# Altium footprint library BLDC_Motor_Driver.PcbLib: 122 footprints (part 6 of 8)
Each footprint in its own frame and in the unit in brackets; x right, y up, seen from the top. Pads: shape width x height; smd on the part's side, far side on the other; paste and mask are expansions set on the pad; w line width, h text height; cw(c..) or ccw(c..) is an arc to the next point about the centre after c.
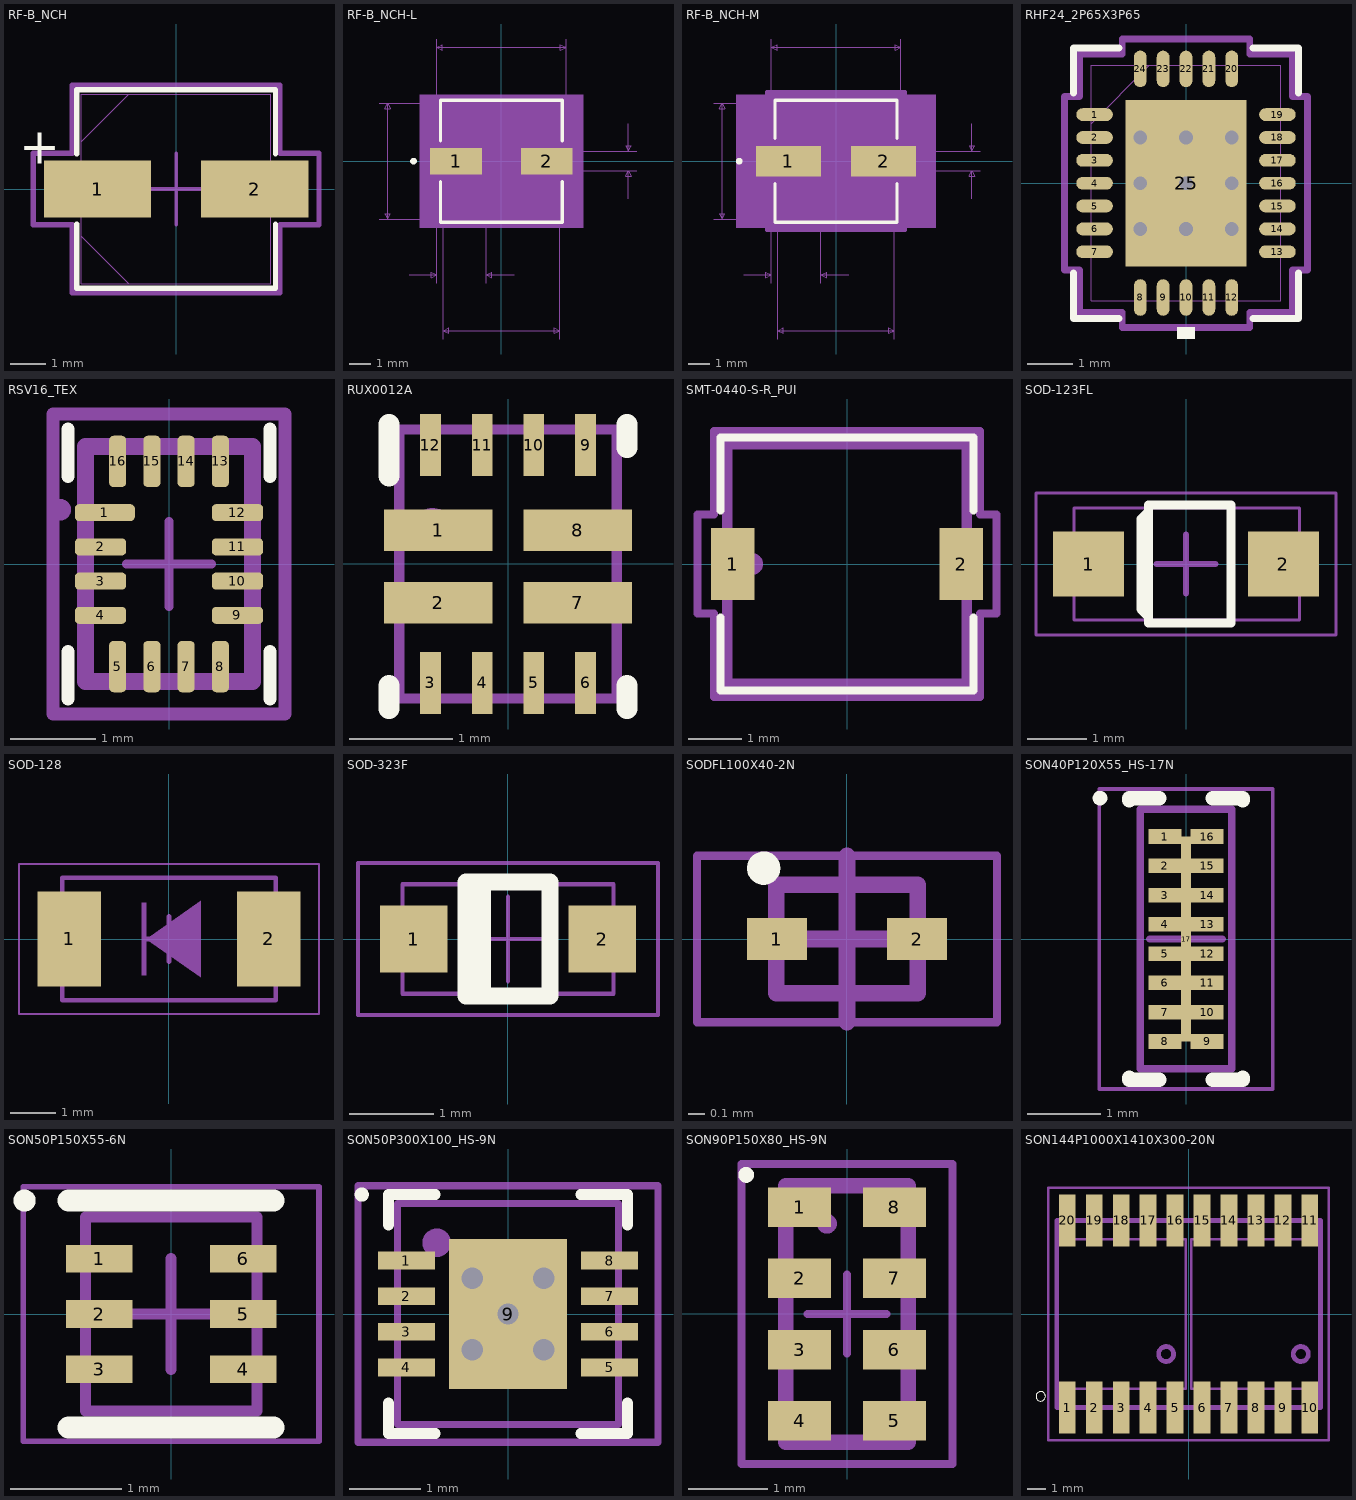
[diagram p5: the footprints below, top view; thin cyan lines are the x and y axes]

## RF-B_NCH [mm]
pads (2):
  rect 3x1.6 smd: 1(-2.2,0) 2(2.2,0)
Top Overlay:
  lines w0.152: -2.781,-0.98 -2.781,-2.781 2.781,-2.781 2.781,-0.98 ; -2.781,0.98 -2.781,2.781 2.781,2.781 2.781,0.98
  text "+" at -4.4,0.7 h1
3D Body TOP:
  lines w0.025: -2.654,-1.327 -1.327,-2.654 ; -2.654,1.327 -1.327,2.654 ; -2.654,-2.654 -2.654,2.654 2.654,2.654 2.654,-2.654 -2.654,-2.654
Courtyard TOP:
  lines w0.1: -1,0 1,0 ; 0,-1 0,1
  lines w0.152: -4,-1 -2.908,-1 -2.908,-2.908 2.908,-2.908 2.908,-1 4,-1 4,1 2.908,1 2.908,2.908 -2.908,2.908 -2.908,1 -4,1 -4,-1
3D body "RF-B_NCH.step": height 5.74, standoff 0, extent -2.946,-2.654 2.946,2.654

## RF-B_NCH-L [mil]
pads (2):
  rect 93x47 smd paste+0 mask+0: 1(-81.5,0) 2(81.5,0)
Top Overlay:
  circle w6: c-158,0 r3
  lines w6: -109.5,-36.6 -109.5,-109.5 109.5,-109.5 109.5,-36.6 ; -109.5,36.6 -109.5,109.5 109.5,109.5 109.5,36.6
Mechanical 5:
  region: 147,-119.5 -147,-119.5 -147,119.5 147,119.5
Mechanical 7:
  lines w1: -219.5,-104.5 -104.5,-104.5 -104.5,-319.5 ; -219.5,104.5 -104.5,104.5 ; -166,-204.5 -116,-204.5 ; -116,-219.5 -116,-33.5 ; -116,33.5 -116,219.5 ; -27,-219.5 -27,-13.5 ; 23,-204.5 -27,-204.5 ; 104.5,-319.5 104.5,-104.5 ; 116,33.5 116,219.5 ; 138,-17.5 243,-17.5 ; 138,17.5 243,17.5 ; 228,-67.5 228,-17.5 ; 228,67.5 228,17.5 ; -204.5,-104.5 -204.5,104.5 ; -204.5,-104.5 -209.5,-94.5 -199.5,-94.5 -204.5,-104.5 ; -204.5,104.5 -209.5,94.5 -199.5,94.5 -204.5,104.5 ; -116,-204.5 -126,-199.5 -126,-209.5 -116,-204.5 ; -116,204.5 116,204.5 ; -116,204.5 -106,209.5 -106,199.5 -116,204.5 ; -104.5,-304.5 104.5,-304.5 ; -104.5,-304.5 -94.5,-299.5 -94.5,-309.5 -104.5,-304.5 ; -27,-204.5 -17,-199.5 -17,-209.5 -27,-204.5 ; 104.5,-304.5 94.5,-299.5 94.5,-309.5 104.5,-304.5 ; 116,204.5 106,209.5 106,199.5 116,204.5 ; 228,-17.5 223,-27.5 233,-27.5 228,-17.5 ; 228,17.5 223,27.5 233,27.5 228,17.5
  text "Default Padstyle: RX93Y47D0T" at -350,-451.5 h50
  text "Alternate 1 Padstyle: OX60Y90D30P" at -412.5,-551.5 h50
  text "Alternate 2 Padstyle: OX90Y60D30P" at -412.5,-651.5 h50
  text "0.035in/0.889mm" at 248,-12.5 h25
  text "0.232in/5.893mm" at -93.75,224.5 h25
  text "0.209in/5.309mm" at -412,-12.5 h25
  text "0.089in/2.261mm" at -165.25,-249.5 h25
  text "0.209in/5.309mm" at -93.75,-349.5 h25
3D Body TOP:
  circle w0: c-84.5,0 r3
  lines w1: -104.5,-52.25 -52.25,-104.5 ; -104.5,52.25 -52.25,104.5 ; -104.5,-104.5 104.5,-104.5 104.5,104.5 -104.5,104.5 -104.5,-104.5
Courtyard TOP:
  region: -108.5,-27.5 -132,-27.5 -132,27.5 -108.5,27.5 -108.5,108.5 108.5,108.5 108.5,27.5 132,27.5 132,-27.5 108.5,-27.5 108.5,-108.5 -108.5,-108.5
  lines w6: -132,-27.5 -132,27.5 -108.5,27.5 -108.5,108.5 108.5,108.5 108.5,27.5 132,27.5 132,-27.5 108.5,-27.5 108.5,-108.5 -108.5,-108.5 -108.5,-27.5 -132,-27.5
3D body: height 10, standoff 0, extent 0,0 10,10

## RF-B_NCH-M [mil]
pads (2):
  rect 117x55 smd paste+0 mask+0: 1(-85.5,0) 2(85.5,0)
Top Overlay:
  circle w6: c-174,0 r3
  lines w6: -109.5,-40.6 -109.5,-109.5 109.5,-109.5 109.5,-40.6 ; -109.5,40.6 -109.5,109.5 109.5,109.5 109.5,40.6
Mechanical 5:
  region: 179,-119.5 -179,-119.5 -179,119.5 179,119.5
Mechanical 7:
  lines w1: -219.5,-104.5 -104.5,-104.5 -104.5,-319.5 ; -219.5,104.5 -104.5,104.5 ; -166,-204.5 -116,-204.5 ; -116,-219.5 -116,-37.5 ; -116,37.5 -116,219.5 ; -27,-219.5 -27,-17.5 ; 23,-204.5 -27,-204.5 ; 104.5,-319.5 104.5,-104.5 ; 116,37.5 116,219.5 ; 154,-17.5 259,-17.5 ; 154,17.5 259,17.5 ; 244,-67.5 244,-17.5 ; 244,67.5 244,17.5 ; -204.5,-104.5 -204.5,104.5 ; -204.5,-104.5 -209.5,-94.5 -199.5,-94.5 -204.5,-104.5 ; -204.5,104.5 -209.5,94.5 -199.5,94.5 -204.5,104.5 ; -116,-204.5 -126,-199.5 -126,-209.5 -116,-204.5 ; -116,204.5 116,204.5 ; -116,204.5 -106,209.5 -106,199.5 -116,204.5 ; -104.5,-304.5 104.5,-304.5 ; -104.5,-304.5 -94.5,-299.5 -94.5,-309.5 -104.5,-304.5 ; -27,-204.5 -17,-199.5 -17,-209.5 -27,-204.5 ; 104.5,-304.5 94.5,-299.5 94.5,-309.5 104.5,-304.5 ; 116,204.5 106,209.5 106,199.5 116,204.5 ; 244,-17.5 239,-27.5 249,-27.5 244,-17.5 ; 244,17.5 239,27.5 249,27.5 244,17.5
  text "Default Padstyle: RX117Y55D0T" at -362.5,-447.5 h50
  text "Alternate 1 Padstyle: OX60Y90D30P" at -412.5,-547.5 h50
  text "Alternate 2 Padstyle: OX90Y60D30P" at -412.5,-647.5 h50
  text "0.035in/0.889mm" at 264,-12.5 h25
  text "0.232in/5.893mm" at -93.75,224.5 h25
  text "0.209in/5.309mm" at -412,-12.5 h25
  text "0.089in/2.261mm" at -165.25,-249.5 h25
  text "0.209in/5.309mm" at -93.75,-349.5 h25
3D Body TOP:
  circle w0: c-84.5,0 r3
  lines w1: -104.5,-52.25 -52.25,-104.5 ; -104.5,52.25 -52.25,104.5 ; -104.5,-104.5 104.5,-104.5 104.5,104.5 -104.5,104.5 -104.5,-104.5
Courtyard TOP:
  region: -124.5,-47.5 -164,-47.5 -164,47.5 -124.5,47.5 -124.5,124.5 124.5,124.5 124.5,47.5 164,47.5 164,-47.5 124.5,-47.5 124.5,-124.5 -124.5,-124.5
  lines w6: -164,-47.5 -164,47.5 -124.5,47.5 -124.5,124.5 124.5,124.5 124.5,47.5 164,47.5 164,-47.5 124.5,-47.5 124.5,-124.5 -124.5,-124.5 -124.5,-47.5 -164,-47.5
3D body: height 10, standoff 0, extent 0,0 10,10

## RHF24_2P65X3P65 [mm] "Plastic Quad Flatpack No-Lead"
height 1
pads (25):
  rrect100% 0.8x0.28 smd mask+0.05: 1(-2,1.5) 2(-2,1) 3(-2,0.5) 4(-2,0) 5(-2,-0.5) 6(-2,-1) 7(-2,-1.5) 13(2,-1.5) 14(2,-1) 15(2,-0.5) 16(2,0) 17(2,0.5) 18(2,1) 19(2,1.5)
  rrect100% 0.28x0.8 smd mask+0.05: 8(-1,-2.5) 9(-0.5,-2.5) 10(0,-2.5) 11(0.5,-2.5) 12(1,-2.5) 20(1,2.5) 21(0.5,2.5) 22(0,2.5) 23(-0.5,2.5) 24(-1,2.5)
  rect 2.65x3.65 smd paste-2 mask+0: 25(0,0)
via 0,0 diameter 0.605 hole 0.3
via 0,1 diameter 0.605 hole 0.3
via 0,-1 diameter 0.605 hole 0.3
via -1,-1 diameter 0.605 hole 0.3
via -1,0 diameter 0.605 hole 0.3
via -1,1 diameter 0.605 hole 0.3
via 1,1 diameter 0.605 hole 0.3
via 1,0 diameter 0.605 hole 0.3
via 1,-1 diameter 0.605 hole 0.3
Top Overlay:
  region: 0.191,-3.154 -0.191,-3.154 -0.191,-3.408 0.191,-3.408
  lines w0.152: -2.456,-1.968 -2.456,-2.956 -1.468,-2.956 ; -2.456,1.968 -2.456,2.956 -1.468,2.956 ; 1.468,-2.956 2.456,-2.956 2.456,-1.968 ; 1.468,2.956 2.456,2.956 2.456,1.968
  text "." at -2.921,1.397 h1.27
Top Paste:
  region: -0.15,0.15 -0.15,1.55 -1.25,1.55 -1.25,0.15
  region: 0.15,-0.15 0.15,-1.55 1.25,-1.55 1.25,-0.15
  region: 1.25,0.15 1.25,1.55 0.15,1.55 0.15,0.15
  region: -1.25,-0.15 -1.25,-1.55 -0.15,-1.55 -0.15,-0.15
Top Solder:
  region: -1.389,1.381 -1.389,1.889 1.389,1.889 1.389,1.381
  region: -1.389,0.594 -1.389,0.981 1.389,0.981 1.389,0.594
  region: -1.389,-0.194 -1.389,0.194 1.389,0.194 1.389,-0.194
  region: -1.389,-0.981 -1.389,-0.594 1.389,-0.594 1.389,-0.981
  region: -1.389,-1.889 -1.389,-1.381 1.389,-1.381 1.389,-1.889
  region: -1.389,-1.889 -1.389,1.889 -0.987,1.889 -0.987,-1.889
  region: -0.2,-1.889 -0.2,1.889 -0.587,1.889 -0.587,-1.889
  region: 0.587,-1.889 0.587,1.889 0.2,1.889 0.2,-1.889
  region: 0.987,-1.889 0.987,1.889 1.389,1.889 1.389,-1.889
3D Body TOP:
  lines w0.025: -2.075,1.305 -0.805,2.575 ; -2.075,-2.575 2.075,-2.575 2.075,2.575 -2.075,2.575 -2.075,-2.575
  text "." at -1.778,2.032 h1.27
Courtyard TOP:
  lines w0.152: -2.654,-1.894 -2.329,-1.894 -2.329,-2.829 -1.394,-2.829 -1.394,-3.154 1.394,-3.154 1.394,-2.829 2.329,-2.829 2.329,-1.894 2.654,-1.894 2.654,1.894 2.329,1.894 2.329,2.829 1.394,2.829 1.394,3.154 -1.394,3.154 -1.394,2.829 -2.329,2.829 -2.329,1.894 -2.654,1.894 -2.654,-1.894
PCB Sheet:
  circle w0.127: c-0.787,-1.181 r0.191
  circle w0.127: c-0.787,-0.394 r0.191
  circle w0.127: c-0.787,0.394 r0.191
  circle w0.127: c-0.787,1.181 r0.191
  circle w0.127: c0,-1.181 r0.191
  circle w0.127: c0,-0.394 r0.191
  circle w0.127: c0,0.394 r0.191
  circle w0.127: c0,1.181 r0.191
  circle w0.127: c0.787,-1.181 r0.191
  circle w0.127: c0.787,-0.394 r0.191
  circle w0.127: c0.787,0.394 r0.191
  circle w0.127: c0.787,1.181 r0.191
3D body: height 0.25, standoff 0, extent 0,0 0.254,0.254
3D body "RHF24_2P65X3P65_TEX.step": height 1, standoff 0, extent -2.126,-2.626 2.126,2.626

## RSV16_TEX [mm]
pads (16):
  rrect50% 0.7x0.2 smd paste+0 mask+0.05: 1(-0.75,0.6)
  rrect50% 0.6x0.2 smd paste+0 mask+0.05: 2(-0.8,0.2) 3(-0.8,-0.2) 4(-0.8,-0.6) 9(0.8,-0.6) 10(0.8,-0.2) 11(0.8,0.2) 12(0.8,0.6)
  rrect50% 0.2x0.6 smd paste+0 mask+0.05: 5(-0.6,-1.2) 6(-0.2,-1.2) 7(0.2,-1.2) 8(0.6,-1.2) 13(0.6,1.2) 14(0.2,1.2) 15(-0.2,1.2) 16(-0.6,1.2)
Top Overlay:
  lines w0.152: -1.179,-1.579 -1.179,-1.026 ; -1.179,1.026 -1.179,1.579 ; 1.179,-1.579 1.179,-1.026 ; 1.179,1.026 1.179,1.579
TOP ASSY:
  circle w0.15: c-1.27,0.635 r0.05
  lines w0.2: -0.975,-1.375 -0.975,1.375 0.975,1.375 0.975,-1.375 -0.975,-1.375
Courtyard TOP:
  lines w0.1: -0.5,0 0.5,0 ; 0,-0.5 0,0.5
  lines w0.152: -1.354,-1.754 1.354,-1.754 1.354,1.754 -1.354,1.754 -1.354,-1.754
3D body "RSV0016A.step": height 0.55, standoff 0, extent -0.975,-1.375 0.975,1.375

## RUX0012A [mm]
pads (12):
  rect 1.05x0.4 smd paste+0 mask+0: 1(-0.675,0.325) 2(-0.675,-0.375) 7(0.675,-0.375) 8(0.675,0.325)
  rect 0.2x0.6 smd paste+0 mask+0: 3(-0.75,-1.15) 4(-0.25,-1.15) 5(0.25,-1.15) 6(0.75,-1.15) 9(0.75,1.15) 10(0.25,1.15) 11(-0.25,1.15) 12(-0.75,1.15)
Top Overlay:
  lines w0.2: -1.15,-1.4 -1.15,-1.175 ; -1.15,0.85 -1.15,1.35 ; 1.15,-1.4 1.15,-1.175 ; 1.15,1.125 1.15,1.35
3D Body TOP:
  circle w0.08: c-0.725,0.35 r0.152
  lines w0.1: -1.05,-1.3 -1.05,1.3 1.05,1.3 1.05,-1.3 -1.05,-1.3
  text ".Designator" at 0,0 h1.27
3D body "RUX0012A.stp": height 1, standoff 0, extent -1,-1.25 1,1.25

## SMT-0440-S-R_PUI [mil] "Buzzers Transducer, Externally Driven 90mA 4kHz 70dB @ 3V, 10cm Surface Mount Solder Pads"
height 78.74
pads (2):
  rect 32x53 smd: 1(-84.5,0) 2(84.5,0)
Top Overlay:
  lines w6: -93.5,-39.6 -93.5,-93.5 93.5,-93.5 93.5,-39.6 ; -93.5,39.6 -93.5,93.5 93.5,93.5 93.5,39.6
TOP ASSY:
  circle w7.87: c-70,0 r3.94
  lines w7.87: -88.5,-88.5 88.5,-88.5 88.5,88.5 -88.5,88.5 -88.5,-88.5
Courtyard TOP:
  lines w6: -110.5,-36.5 -110.5,36.5 -98.5,36.5 -98.5,98.5 98.5,98.5 98.5,36.5 110.5,36.5 110.5,-36.5 98.5,-36.5 98.5,-98.5 -98.5,-98.5 -98.5,-36.5 -110.5,-36.5
3D body "SMT-0440-S-R_PUI.step": height 98.11, standoff 0, extent -88.5,-88.5 88.5,88.5

## SOD-123FL [mm]
height 1.35
pads (2):
  rect 1.2x1.1 smd: 1(-1.651,0) 2(1.651,0)
Top Overlay:
  lines w0.152: -0.635,-0.889 -0.762,-0.762 -0.762,0.762 -0.635,0.889 ; -0.635,-1 0.762,-1 0.762,1 -0.635,1 -0.635,-1
3D Body TOP:
  lines w0.05: -1.9,-0.95 1.925,-0.95 1.925,0.95 -1.9,0.95 -1.9,-0.95
Courtyard TOP:
  lines w0.05: -2.54,-1.2 2.54,-1.2 2.54,1.2 -2.54,1.2 -2.54,-1.2
  lines w0.1: -0.5,0 0.5,0 ; 0,-0.5 0,0.5
3D body "SOD-123FL.STEP": height 1.35, standoff 0, extent -1.925,-0.95 1.925,0.95

## SOD-128 [mm] "SOD-128"
height 1
pads (2):
  rect 1.4x2.1 smd: 1(-2.2,0) 2(2.2,0)
TOP ASSY:
  rectangle: -0.6,-0.8 -0.5,0.8
  region: -0.5,0 0.7,0.84 0.7,-0.84
  lines w0.1: -2.35,-1.35 2.35,-1.35 2.35,1.35 -2.35,1.35 -2.35,-1.35
  text "'.Designator'" at -1.5,1.5 h0.5
Courtyard TOP:
  lines w0.05: -3.302,-1.651 3.302,-1.651 3.302,1.651 -3.302,1.651 -3.302,-1.651
  lines w0.1: -0.5,0 0.5,0 ; 0,-0.5 0,0.5
3D body "SOD-128.step": height 1, standoff 0, extent -2.35,-1.35 2.35,1.35

## SOD-323F [mm]
height 1.062
pads (2):
  rect 0.8x0.8 smd: 1(-1.115,0) 2(1.115,0)
Top Overlay:
  lines w0.2: -0.3,-0.675 -0.3,0.675 ; -0.5,-0.675 0.5,-0.675 0.5,0.675 -0.5,0.675 -0.5,-0.675
3D Body TOP:
  lines w0.05: -1.25,-0.65 1.25,-0.65 1.25,0.65 -1.25,0.65 -1.25,-0.65
Courtyard TOP:
  lines w0.05: -0.5,0 0.5,0 ; 0,-0.5 0,0.5 ; -1.778,-0.9 -1.778,0.9 1.778,0.9 1.778,-0.9 -1.778,-0.9
3D body "SOD-323F.STEP": height 1, standoff 0, extent -1.25,-0.65 1.25,0.65

## SODFL100X40-2N [mm] "SODFL, 2-Leads, Body 0.60x1.00mm, IPC Medium Density"
height 0.4
pads (2):
  rect 0.36x0.25 smd: 1(-0.42,0) 2(0.42,0)
Top Overlay:
  circle w0.1: c-0.5,0.425 r0.05
3D Body TOP:
  lines w0.1: -0.425,-0.325 0.425,-0.325 0.425,0.325 -0.425,0.325 -0.425,-0.325
Courtyard TOP:
  lines w0.05: -0.9,-0.5 0.9,-0.5 0.9,0.5 -0.9,0.5 -0.9,-0.5
  lines w0.1: -0.5,0 0.5,0 ; 0,-0.5 0,0.5
3D body "SODFL100X40-2N.step": height 0.4, standoff 0, extent -0.5,-0.325 0.5,0.325

## SON40P120X55_HS-17N [mm] "SON, 16-Leads, Body 3.50x1.20mm, Pitch 0.40mm, Thermal Pad 2.80x0.13mm, IPC Medium Density"
height 0.55
pads (17):
  rect 0.45x0.2 smd: 1(-0.288,1.4) 2(-0.288,1) 3(-0.288,0.6) 4(-0.288,0.2) 5(-0.288,-0.2) 6(-0.288,-0.6) 7(-0.288,-1) 8(-0.288,-1.4) 9(0.288,-1.4) 10(0.288,-1) 11(0.288,-0.6) 12(0.288,-0.2) 13(0.288,0.2) 14(0.288,0.6) 15(0.288,1) 16(0.288,1.4)
  rect 0.13x2.8 smd: 17(0,0)
Top Overlay:
  circle w0.1: c-1.175,1.925 r0.05
  lines w0.2: -0.775,-1.9 -0.775,-1.925 -0.365,-1.925 ; -0.775,1.9 -0.775,1.925 -0.365,1.925 ; 0.365,-1.925 0.775,-1.925 0.775,-1.9 ; 0.365,1.925 0.775,1.925 0.775,1.9
3D Body TOP:
  lines w0.1: -0.625,-1.775 0.625,-1.775 0.625,1.775 -0.625,1.775 -0.625,-1.775
Courtyard TOP:
  lines w0.05: -1.185,-2.05 1.185,-2.05 1.185,2.05 -1.185,2.05 -1.185,-2.05
  lines w0.1: -0.5,0 0.5,0 ; 0,-0.5 0,0.5
3D body "SON40P120X55_HS-17N.step": height 0.55, standoff 0.05, extent -0.625,-1.775 0.625,1.775

## SON50P150X55-6N [mm] "SON, 6-Leads, Body 1.70x1.50mm, Pitch 0.50mm, IPC Medium Density"
height 0.55
pads (6):
  rect 0.6x0.25 smd: 1(-0.65,0.5) 2(-0.65,0) 3(-0.65,-0.5) 4(0.65,-0.5) 5(0.65,0) 6(0.65,0.5)
Top Overlay:
  circle w0.1: c-1.325,1.025 r0.05
  lines w0.2: -0.925,-1.025 0.925,-1.025 ; -0.925,1.025 0.925,1.025
3D Body TOP:
  lines w0.1: -0.775,-0.875 -0.775,0.875 0.775,0.875 0.775,-0.875 -0.775,-0.875
Courtyard TOP:
  lines w0.05: -1.335,-1.15 -1.335,1.15 1.335,1.15 1.335,-1.15 -1.335,-1.15
  lines w0.1: -0.5,0 0.5,0 ; 0,-0.5 0,0.5
3D body "SON50P150X55-6N.step": height 0.55, standoff 0.05, extent -0.775,-0.875 0.775,0.875

## SON50P300X100_HS-9N [mm] "SON, 8-Leads, Body 3.00x3.00mm, Pitch 0.50mm, Thermal Pad 2.10x1.49mm, IPC Medium Density"
height 1
pads (9):
  rect 0.8x0.25 smd mask+0.05: 1(-1.425,0.75) 2(-1.425,0.25) 3(-1.425,-0.25) 4(-1.425,-0.75) 5(1.425,-0.75) 6(1.425,-0.25) 7(1.425,0.25) 8(1.425,0.75)
  rect 1.65x2.1 smd mask+0.05: 9(0,0)
via 0,0 diameter 0.605 hole 0.3
via -0.5,0.5 diameter 0.605 hole 0.3
via 0.5,0.5 diameter 0.605 hole 0.3
via 0.5,-0.5 diameter 0.605 hole 0.3
via -0.5,-0.5 diameter 0.605 hole 0.3
Top Overlay:
  circle w0.1: c-2.052,1.676 r0.05
  lines w0.152: -1.676,-1.251 -1.676,-1.676 -1.021,-1.676 ; -1.676,1.251 -1.676,1.676 -1.021,1.676 ; 1.021,-1.676 1.676,-1.676 1.676,-1.251 ; 1.021,1.676 1.676,1.676 1.676,1.251
TOP ASSY:
  circle w0.2: c-1,1 r0.1
  lines w0.1: -1.55,-1.55 1.55,-1.55 1.55,1.55 -1.55,1.55 -1.55,-1.55
Courtyard TOP:
  lines w0.1: -0.5,0 0.5,0 ; 0,-0.5 0,0.5 ; -2.105,-1.8 2.105,-1.8 2.105,1.8 -2.105,1.8 -2.105,-1.8
3D body "SON50P300X100_HS-9N.step": height 1, standoff 0, extent -1.551,-1.55 1.551,1.55

## SON90P150X80_HS-9N [mm] "SON, 8-Leads, Body 3.20x1.50mm, Pitch 0.90mm, Thermal Pad 0.10x0.03mm, IPC Medium Density"
height 0.8
pads (8):
  rect 0.8x0.5 smd: 1(-0.6,1.35) 2(-0.6,0.45) 3(-0.6,-0.45) 4(-0.6,-1.35) 5(0.6,-1.35) 6(0.6,-0.45) 7(0.6,0.45) 8(0.6,1.35)
Top Overlay:
  circle w0.1: c-1.277,1.762 r0.05
TOP ASSY:
  circle w0.15: c-0.254,1.143 r0.05
  lines w0.2: -0.775,-1.625 -0.775,1.625 0.775,1.625 0.775,-1.625 -0.775,-1.625
  text "'.Designator'" at -0.508,-0.381 h0.5
Courtyard TOP:
  lines w0.1: -0.5,0 0.5,0 ; 0,-0.5 0,0.5 ; -1.335,-1.9 -1.335,1.9 1.335,1.9 1.335,-1.9 -1.335,-1.9
3D body "SON90P150X80_HS-9N.step": height 0.8, standoff 0, extent -0.775,-1.625 0.775,1.625

## SON144P1000X1410X300-20N [mm]
pads (20):
  rect 0.9x2.8 smd: 1(-6.48,-5) 2(-5.04,-5) 3(-3.6,-5) 4(-2.16,-5) 5(-0.72,-5) 6(0.72,-5) 7(2.16,-5) 8(3.6,-5) 9(5.04,-5) 10(6.48,-5) 11(6.48,5) 12(5.04,5) 13(3.6,5) 14(2.16,5) 15(0.72,5) 16(-0.72,5) 17(-2.16,5) 18(-3.6,5) 19(-5.04,5) 20(-6.48,5)
Top Overlay:
  circle w0: c-7.9,-4.4 r0.254
3D Body TOP:
  circle w0.254: c6,-2.14 r0.4
  circle w0.254: c-1.2,-2.14 r0.4
  lines w0.127: -7.05,-4 -7.05,4 -0.15,4 -0.15,-4 -7.05,-4 ; 0.15,-4 0.15,4 7.05,4 7.05,-4 0.15,-4
  lines w0.254: -7.05,-5 -7.05,5 7.05,5 7.05,-5 -7.05,-5
  text "8" at 1.905,-2.557 h5.09
  text "8" at -5.319,-2.559 h5.1
Courtyard TOP:
  lines w0.127: -7.5,-6.75 7.5,-6.75 7.5,6.75 -7.5,6.75 -7.5,-6.75